# Altium footprint library SelfDrivingCar_Lib_Bittersweet.PcbLib: 11 footprints
Each footprint in its own frame and in the unit in brackets; x right, y up, seen from the top. Pads: shape width x height; smd on the part's side, far side on the other; paste and mask are expansions set on the pad; w line width, h text height; cw(c..) or ccw(c..) is an arc to the next point about the centre after c.
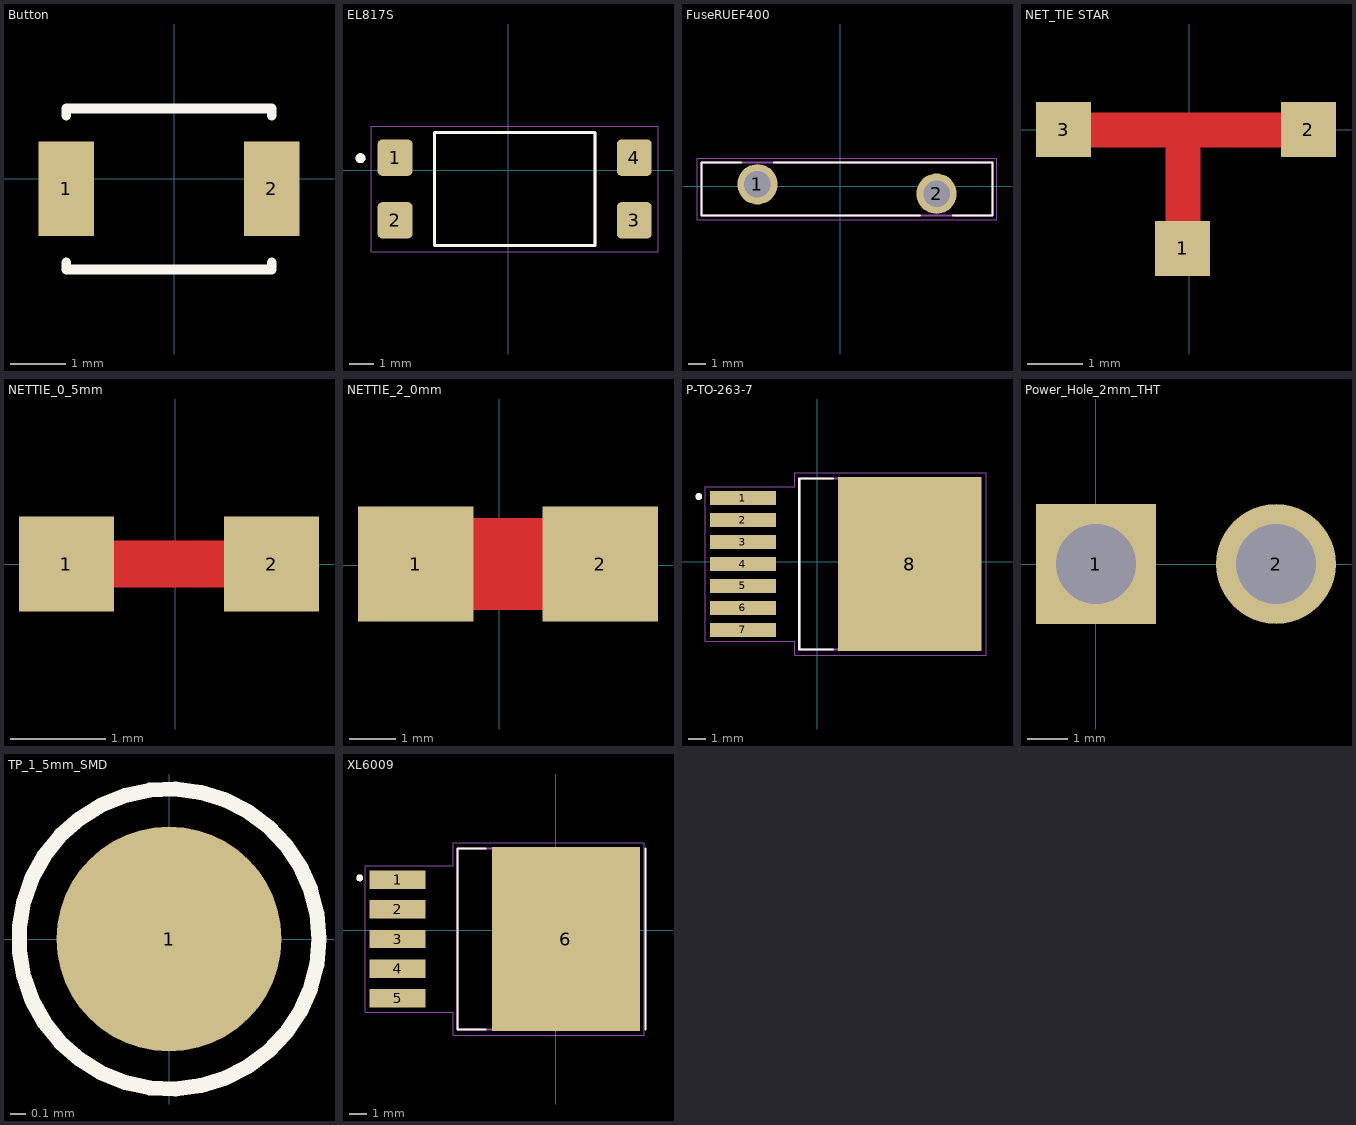
[diagram p0: the footprints below, top view; thin cyan lines are the x and y axes]

## Button [mm]
pads (2):
  rect 1x1.7 smd: 1(-1.946,-0.178) 2(1.754,-0.178)
Top Overlay:
  lines w0.178: -1.946,-1.506 -1.946,-1.631 1.738,-1.631 ; -1.946,1.144 -1.946,1.269 1.738,1.269 ; 1.754,-1.631 1.754,-1.506 ; 1.754,1.144 1.754,1.269
3D body: height 2.5, standoff 0, extent -0.975,-1.051 0.768,0.695
3D body: height 1.5, standoff 0, extent -2.116,-1.439 1.909,1.078

## DO-214AB(SMC) [mm]

## EL817S [mm]
pads (4):
  rrect25% 1.41x1.47 smd: 1(-4.596,0.508) 2(-4.596,-2.032) 3(5.104,-2.032) 4(5.104,0.508)
Top Overlay:
  circle w0.2: c-5.996,0.488 r0.1
  lines w0.127: -2.996,-3.052 -2.996,1.528 3.504,1.528 3.504,-3.052 -2.996,-3.052
Mechanical 13:
  circle w0.2: c-5.996,0.488 r0.1
  lines w0.127: -2.996,-3.052 3.504,-3.052 3.504,1.528 -2.996,1.528 -2.996,-3.052
Mechanical 15:
  lines w0.05: -5.556,-3.302 6.064,-3.302 6.064,1.778 -5.556,1.778 -5.556,-3.302
3D body "step_temp.STEP": height 4.6, standoff 0, extent -4.896,-3.052 5.404,1.528

## FuseRUEF400 [mil]
pads (2):
  round 90 hole 59.06: 1(-185,5) 2(214.61,-16.18)
Top Overlay:
  lines w5: -221.77,53.46 -310,53.46 -310,-64.65 177.83,-64.65 ; -148.23,53.46 339.61,53.46 339.61,-64.65 251.38,-64.65
Mechanical 13:
  lines w5: -310,-64.65 339.61,-64.65 339.61,53.46 -310,53.46 -310,-64.65
Mechanical 15:
  lines w1.97: -319.84,-74.49 349.45,-74.49 349.45,63.31 -319.84,63.31 -319.84,-74.49

## NET_TIE STAR [mm]
pads (3):
  rect 1x1 smd mask+0: 1(-0.127,-2.159) 2(2.159,0) 3(-2.286,0)
Top Layer:
  rectangle: -2.388,-0.33 2.261,0.305
  rectangle: -0.432,-2.21 0.203,0.025

## NETTIE_0_5mm [mm]
pads (2):
  rect 1x1 smd mask-10: 1(-1.143,0) 2(1.016,0)
Top Layer:
  lines w0.5: -1.143,0 1.016,0

## NETTIE_2_0mm [mm]
pads (2):
  rect 2.5x2.5 smd mask-10: 1(-1.806,0.025) 2(2.194,0.025)
Top Layer:
  lines w2: -1.806,0.025 2.194,0.025

## P-TO-263-7 [mm]
pads (8):
  rect 3.81x0.8 smd: 1(-4.299,3.683) 2(-4.299,2.413) 3(-4.299,1.143) 4(-4.299,-0.127) 5(-4.299,-1.397) 6(-4.299,-2.667) 7(-4.299,-3.937)
  rect 8.29x10.07 smd paste-4.36: 8(5.361,-0.127)
Top Overlay:
  circle w0.2: c-6.849,3.773 r0.1
  lines w0.127: 0.902,-5.077 -1.039,-5.077 -1.039,4.823 0.902,4.823
Top Paste:
  region: 6.186,1.218 4.536,1.218 4.536,2.568 6.186,2.568
  region: 6.186,3.238 4.536,3.238 4.536,4.588 6.186,4.588
  region: 6.186,-2.822 4.536,-2.822 4.536,-1.472 6.186,-1.472
  region: 6.186,-4.842 4.536,-4.842 4.536,-3.492 6.186,-3.492
  region: 8.946,3.238 7.296,3.238 7.296,4.588 8.946,4.588
  region: 8.946,1.218 7.296,1.218 7.296,2.568 8.946,2.568
  region: 8.946,-0.802 7.296,-0.802 7.296,0.548 8.946,0.548
  region: 8.946,-2.822 7.296,-2.822 7.296,-1.472 8.946,-1.472
  region: 8.946,-4.842 7.296,-4.842 7.296,-3.492 8.946,-3.492
  region: 3.426,-4.842 1.776,-4.842 1.776,-3.492 3.426,-3.492
  region: 3.426,-2.822 1.776,-2.822 1.776,-1.472 3.426,-1.472
  region: 3.426,-0.802 1.776,-0.802 1.776,0.548 3.426,0.548
  region: 3.426,1.218 1.776,1.218 1.776,2.568 3.426,2.568
  region: 3.426,3.238 1.776,3.238 1.776,4.588 3.426,4.588
Mechanical 13:
  circle w0.2: c-6.849,3.773 r0.1
  lines w0.127: -1.039,-5.077 8.361,-5.077 8.361,4.823 -1.039,4.823 -1.039,-5.077
Mechanical 15:
  lines w0.05: -6.459,-4.587 -1.289,-4.587 -1.289,-5.417 9.761,-5.417 9.761,5.163 -1.289,5.163 -1.289,4.333 -6.459,4.333 -6.459,-4.587
3D body "step_temp.STEP": height 4.4, standoff 0, extent -5.799,-5.077 9.101,4.823

## Power_Hole_2mm_THT [mm]
pads (2):
  rect 3x3 hole 2: 1(0,0)
  round 3 hole 2: 2(4.5,0)

## TP_1_5mm_SMD [mm]
pads (1):
  round 1.5 smd: 1(0,0)
Top Overlay:
  circle w0.1: c0,0 r1

## XL6009 [mm]
pads (6):
  rect 3.21x1.05 smd: 1(-9.051,2.892) 2(-9.051,1.192) 3(-9.051,-0.508) 4(-9.051,-2.208) 5(-9.051,-3.908)
  rect 8.46x10.53 smd paste-6: 6(0.579,-0.508)
Top Overlay:
  circle w0.2: c-11.221,2.992 r0.1
  lines w0.127: -4.021,-5.688 -5.626,-5.688 -5.626,4.672 -4.021,4.672 ; 5.129,-5.688 5.129,4.672
Top Paste:
  region: 2.269,-1.218 1.009,-1.218 1.009,0.202 2.269,0.202
  region: 4.389,-1.218 3.129,-1.218 3.129,0.202 4.389,0.202
  region: 0.149,-1.218 -1.111,-1.218 -1.111,0.202 0.149,0.202
  region: -1.971,-1.218 -3.231,-1.218 -3.231,0.202 -1.971,0.202
  region: 2.269,0.892 1.009,0.892 1.009,2.312 2.269,2.312
  region: 2.269,3.002 1.009,3.002 1.009,4.422 2.269,4.422
  region: 2.269,-3.328 1.009,-3.328 1.009,-1.908 2.269,-1.908
  region: 2.269,-5.438 1.009,-5.438 1.009,-4.018 2.269,-4.018
  region: 4.389,0.892 3.129,0.892 3.129,2.312 4.389,2.312
  region: 4.389,3.002 3.129,3.002 3.129,4.422 4.389,4.422
  region: 4.389,-3.328 3.129,-3.328 3.129,-1.908 4.389,-1.908
  region: 4.389,-5.438 3.129,-5.438 3.129,-4.018 4.389,-4.018
  region: 0.149,-3.328 -1.111,-3.328 -1.111,-1.908 0.149,-1.908
  region: 0.149,-5.438 -1.111,-5.438 -1.111,-4.018 0.149,-4.018
  region: 0.149,0.892 -1.111,0.892 -1.111,2.312 0.149,2.312
  region: -1.971,0.892 -3.231,0.892 -3.231,2.312 -1.971,2.312
  region: -1.971,3.002 -3.231,3.002 -3.231,4.422 -1.971,4.422
  region: 0.149,3.002 -1.111,3.002 -1.111,4.422 0.149,4.422
  region: -1.971,-3.328 -3.231,-3.328 -3.231,-1.908 -1.971,-1.908
  region: -1.971,-5.438 -3.231,-5.438 -3.231,-4.018 -1.971,-4.018
Mechanical 13:
  circle w0.2: c-11.221,2.992 r0.1
  lines w0.127: -5.626,-5.688 -5.626,4.672 3.274,4.672 3.274,-5.688 -5.626,-5.688
Mechanical 15:
  lines w0.05: -10.911,-4.688 -10.911,3.672 -5.881,3.672 -5.881,5.012 5.059,5.012 5.059,-6.028 -5.881,-6.028 -5.881,-4.688 -10.911,-4.688
3D body "step_temp.STEP": height 4.65, standoff 0, extent -10.096,-5.588 4.254,4.572